# Altium footprint library Fiducial 1mm - 2mm.PcbLib: 1 footprints
Each footprint in its own frame and in the unit in brackets; x right, y up, seen from the top. Pads: shape width x height; smd on the part's side, far side on the other; paste and mask are expansions set on the pad; w line width, h text height; cw(c..) or ccw(c..) is an arc to the next point about the centre after c.
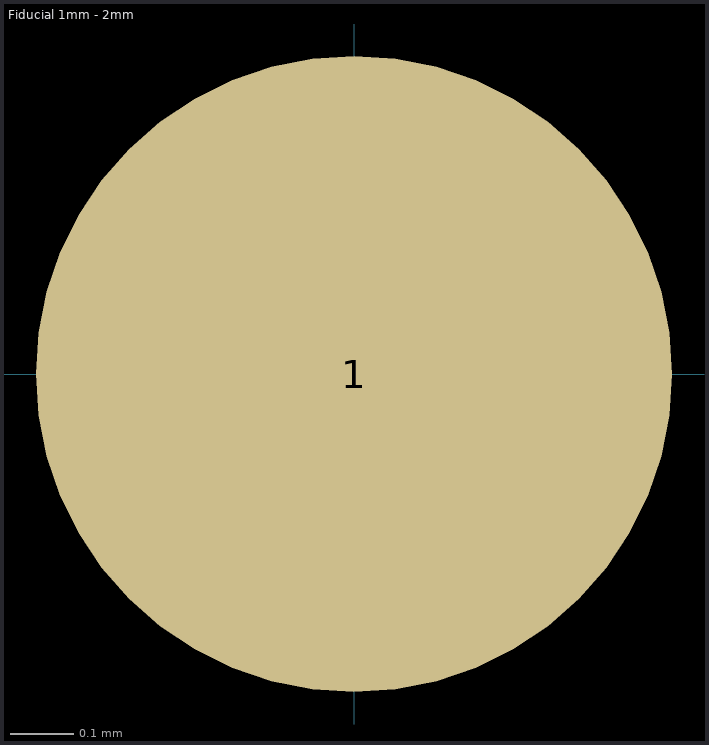
[diagram p0: the footprint, top view; thin cyan lines are the x and y axes]

## Fiducial 1mm - 2mm [mm] "1mm Pad 2mm Opening"
height 1.6
pads (1):
  round 1 smd paste-10 mask+0.5: 1(0,0)